# Altium footprint library PMIC - LED Drivers.PcbLib: 15 footprints
Each footprint in its own frame and in the unit in brackets; x right, y up, seen from the top. Pads: shape width x height; smd on the part's side, far side on the other; paste and mask are expansions set on the pad; w line width, h text height; cw(c..) or ccw(c..) is an arc to the next point about the centre after c.
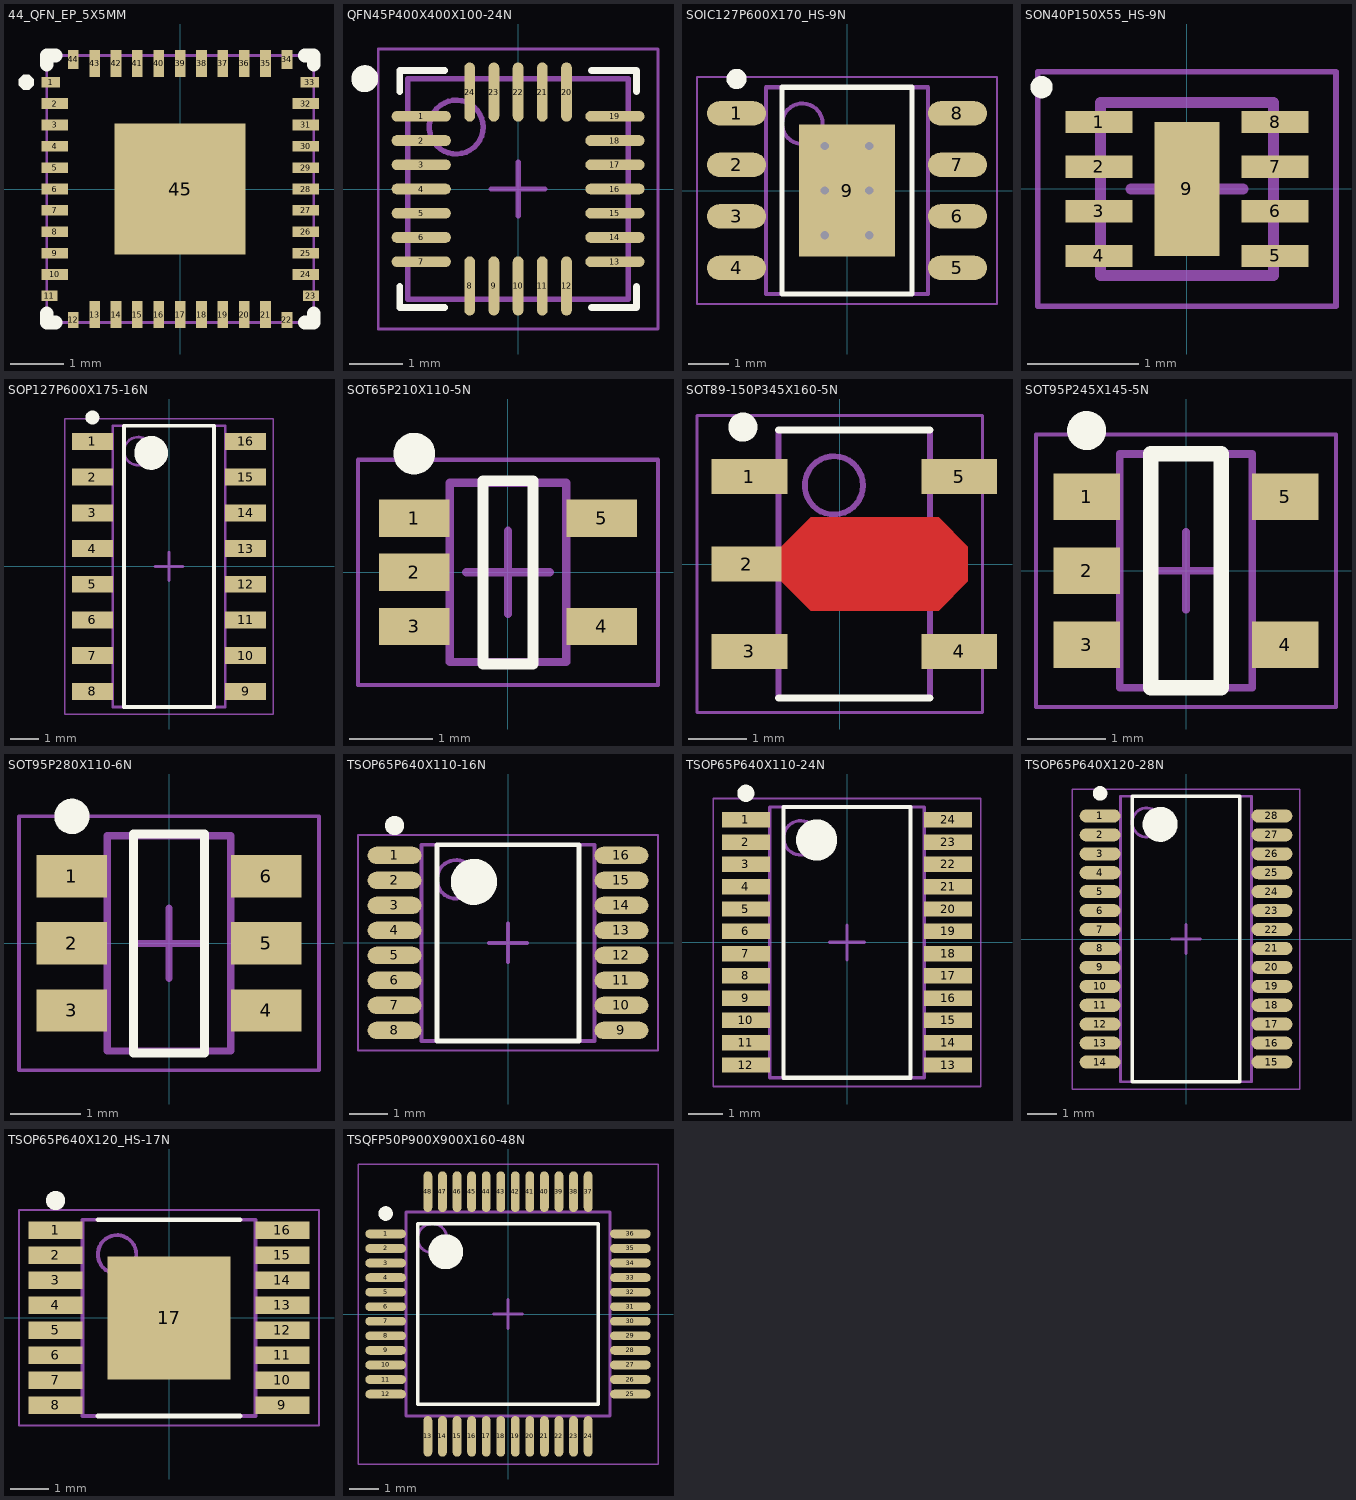
[diagram p0: the footprints below, top view; thin cyan lines are the x and y axes]

## 44_QFN_EP_5X5MM [mm] "20260318"
height 0.9
pads (45):
  rect 0.35x0.2 smd mask+0.05: 1(-2.425,2) 33(2.425,2)
  rect 0.5x0.2 smd mask+0.051: 2(-2.35,1.6) 3(-2.35,1.2) 4(-2.35,0.8) 5(-2.35,0.4) 6(-2.35,0) 7(-2.35,-0.4) 8(-2.35,-0.8) 9(-2.35,-1.2) 10(-2.35,-1.6) 24(2.35,-1.6) 25(2.35,-1.2) 26(2.35,-0.8) 27(2.35,-0.4) 28(2.35,0) 29(2.35,0.4) 30(2.35,0.8) 31(2.35,1.2) 32(2.35,1.6)
  rect 0.3x0.2 smd mask+0.05: 11(-2.45,-2) 23(2.45,-2)
  rect 0.2x0.3 smd mask+0.05: 12(-2,-2.45) 22(2,-2.45)
  rect 0.2x0.5 smd mask+0.051: 13(-1.6,-2.35) 14(-1.2,-2.35) 15(-0.8,-2.35) 16(-0.4,-2.35) 17(0,-2.35) 18(0.4,-2.35) 19(0.8,-2.35) 20(1.2,-2.35) 21(1.6,-2.35) 35(1.6,2.35) 36(1.2,2.35) 37(0.8,2.35) 38(0.4,2.35) 39(0,2.35) 40(-0.4,2.35) 41(-0.8,2.35) 42(-1.2,2.35) 43(-1.6,2.35)
  rect 0.2x0.35 smd mask+0.05: 34(2,2.425) 44(-2,2.425)
  rect 2.45x2.45 smd mask+0.051: 45(0,0)
Top Overlay:
  region: -3.017,2 -3.017,2.057 -2.937,2.137 -2.823,2.137 -2.743,2.057 -2.743,2 -2.743,1.943 -2.823,1.863 -2.937,1.863 -3.017,1.943
  lines w0.254: -2.5,-2.331 -2.5,-2.5 -2.331,-2.5 ; -2.5,2.331 -2.5,2.5 -2.331,2.5 ; 2.331,-2.5 2.5,-2.5 2.5,-2.331 ; 2.331,2.5 2.5,2.5 2.5,2.331
Mechanical 15:
  lines w0.051: -2.5,-2.5 2.5,-2.5 2.5,2.5 -2.5,2.5 -2.5,-2.5
3D body "QFN-44_L5.0-W5.0-P0.40-TL-EP2.5.step": height 0.77, standoff 0, extent -2.51,-2.51 2.51,2.51

## QFN45P400X400X100-24N [mm] "QFN, 24-Leads, Body 4,00x4,00mm, Pitch 0,45mm, IPC Medium Density"
height 1
pads (24):
  oval 1.1x0.2 smd: 1(-1.8,1.35) 2(-1.8,0.9) 3(-1.8,0.45) 4(-1.8,0) 5(-1.8,-0.45) 6(-1.8,-0.9) 7(-1.8,-1.35) 13(1.8,-1.35) 14(1.8,-0.9) 15(1.8,-0.45) 16(1.8,0) 17(1.8,0.45) 18(1.8,0.9) 19(1.8,1.35)
  oval 0.2x1.1 smd: 8(-0.9,-1.8) 9(-0.45,-1.8) 10(0,-1.8) 11(0.45,-1.8) 12(0.9,-1.8) 20(0.9,1.8) 21(0.45,1.8) 22(0,1.8) 23(-0.45,1.8) 24(-0.9,1.8)
Top Overlay:
  circle w0.25: c-2.85,2.05 r0.125
  lines w0.127: -2.2,-1.814 -2.2,-2.2 -1.363,-2.2 ; -2.2,1.813 -2.2,2.2 -1.363,2.2 ; 1.363,-2.2 2.2,-2.2 2.2,-1.814 ; 1.363,2.2 2.2,2.2 2.2,1.813
Mechanical 13:
  circle w0.1: c-1.15,1.15 r0.5
  lines w0.1: -2.05,-2.05 -2.05,2.05 2.05,2.05 2.05,-2.05 -2.05,-2.05
Mechanical 15:
  lines w0.05: -2.6,-2.6 -2.6,2.6 2.6,2.6 2.6,-2.6 -2.6,-2.6
  lines w0.1: -0.5,0 0.5,0 ; 0,-0.5 0,0.5
3D body "QFN45P400X400X100-24N.step": height 1, standoff 0, extent -2.051,-2.051 2.051,2.051

## SOIC127P600X170_HS-9N [mm] "SOIC, 8-Leads, Body 4,90x3,90mm, Pitch 1,27mm, Thermal Pad 3,25x2,36mm, IPC Medium Density"
height 1.7
pads (9):
  oval 1.45x0.6 smd: 1(-2.725,1.905) 2(-2.725,0.635) 3(-2.725,-0.635) 4(-2.725,-1.905) 5(2.725,-1.905) 6(2.725,-0.635) 7(2.725,0.635) 8(2.725,1.905)
  rect 2.36x3.25 smd: 9(0,0)
via -0.55,1.1 diameter 0.5 hole 0.2
via 0.55,1.1 diameter 0.5 hole 0.2
via -0.55,0 diameter 0.5 hole 0.2
via 0.55,0 diameter 0.5 hole 0.2
via -0.55,-1.1 diameter 0.5 hole 0.2
via 0.55,-1.1 diameter 0.5 hole 0.2
Top Overlay:
  circle w0.25: c-2.725,2.755 r0.125
  lines w0.127: -1.6,-2.55 -1.6,2.55 1.6,2.55 1.6,-2.55 -1.6,-2.55
Mechanical 13:
  circle w0.1: c-1.1,1.65 r0.5
  lines w0.1: -2,-2.55 -2,2.55 2,2.55 2,-2.55 -2,-2.55
Mechanical 15:
  lines w0.05: -3.7,-2.8 -3.7,2.8 3.7,2.8 3.7,-2.8 -3.7,-2.8
  lines w0.1: -0.5,0 0.5,0 ; 0,-0.5 0,0.5
3D body "SOIC127P600X170_HS-9N.step": height 1.7, standoff 0, extent -3,-2.55 3,2.55

## SON40P150X55_HS-9N [mm] "SON, 8-Leads, Body 1,50x1,50mm, Pitch 0,40mm, Thermal Pad 1,20x0,58mm, IPC Medium Density"
height 0.55
pads (9):
  rect 0.6x0.2 smd: 1(-0.79,0.6) 2(-0.79,0.2) 3(-0.79,-0.2) 4(-0.79,-0.6) 5(0.79,-0.6) 6(0.79,-0.2) 7(0.79,0.2) 8(0.79,0.6)
  rect 0.58x1.2 smd: 9(0,0)
Top Overlay:
  circle w0.1: c-1.302,0.912 r0.05
Mechanical 13:
  lines w0.1: -0.775,-0.775 -0.775,0.775 0.775,0.775 0.775,-0.775 -0.775,-0.775
Mechanical 15:
  lines w0.05: -1.335,-1.05 -1.335,1.05 1.335,1.05 1.335,-1.05 -1.335,-1.05
  lines w0.1: -0.5,0 0.5,0 ; 0,-0.5 0,0.5
3D body "SON40P150X55_HS-9N.step": height 0.55, standoff 0, extent -0.776,-0.775 0.776,0.775

## SOP127P600X175-16N [mm] "SOP, 16-Leads, Body 9,90x3,90mm, Pitch 1,27mm, IPC Medium Density"
height 1.75
pads (16):
  rect 1.45x0.6 smd: 1(-2.725,4.445) 2(-2.725,3.175) 3(-2.725,1.905) 4(-2.725,0.635) 5(-2.725,-0.635) 6(-2.725,-1.905) 7(-2.725,-3.175) 8(-2.725,-4.445) 9(2.725,-4.445) 10(2.725,-3.175) 11(2.725,-1.905) 12(2.725,-0.635) 13(2.725,0.635) 14(2.725,1.905) 15(2.725,3.175) 16(2.725,4.445)
Top Overlay:
  circle w0.25: c-2.725,5.295 r0.125
  circle w0.6: c-0.637,4.036 r0.3
  lines w0.127: -1.6,-5 -1.6,5 1.6,5 1.6,-5 -1.6,-5
Mechanical 13:
  circle w0.1: c-1.1,4.1 r0.5
  lines w0.1: -2,-5 -2,5 2,5 2,-5 -2,-5
Mechanical 15:
  lines w0.05: -3.7,-5.25 -3.7,5.25 3.7,5.25 3.7,-5.25 -3.7,-5.25
  lines w0.1: -0.5,0 0.5,0 ; 0,-0.5 0,0.5
3D body "SOP127P600X175-16N.step": height 1.75, standoff 0, extent -3,-5 3,5

## SOT65P210X110-5N [mm] "SOT23, 5-Leads, Body 2,00x2,10mm, Pitch 0,65mm, IPC Medium Density"
height 1.1
pads (5):
  rect 0.85x0.45 smd: 1(-1.125,0.65) 2(-1.125,0) 3(-1.125,-0.65) 4(1.125,-0.65) 5(1.125,0.65)
Top Overlay:
  circle w0.25: c-1.125,1.425 r0.125
  lines w0.127: -0.3,-1.1 0.3,-1.1 0.3,1.1 -0.3,1.1 -0.3,-1.1
Mechanical 13:
  lines w0.1: -0.7,-1.075 -0.7,1.075 0.7,1.075 0.7,-1.075 -0.7,-1.075
Mechanical 15:
  lines w0.05: -1.8,-1.35 -1.8,1.35 1.8,1.35 1.8,-1.35 -1.8,-1.35
  lines w0.1: -0.5,0 0.5,0 ; 0,-0.5 0,0.5
3D body "SOT65P210X110-5N.step": height 1.1, standoff 0, extent -1.2,-1.075 1.2,1.075

## SOT89-150P345X160-5N [mm] "SOT89, 5-Leads, Body 4,50x2,45mm, Pitch 1,50mm, Lead Span 3,5mm, IPC Medium Density"
height 1.6
pads (5):
  rect 1.3x0.6 smd: 1(-1.55,1.5) 3(-1.55,-1.5) 4(2.05,-1.5) 5(2.05,1.5)
  rect 1.2x0.6 smd: 2(-1.6,0)
Top Layer:
  region: -1.05,0.25 -0.5,0.8 1.7,0.8 2.2,0.3 2.2,-0.3 1.7,-0.8 -0.5,-0.8 -1.05,-0.25
Top Overlay:
  circle w0.25: c-1.663,2.35 r0.125
  lines w0.127: -1.05,-2.3 1.55,-2.3 ; -1.05,2.3 1.55,2.3
Mechanical 13:
  circle w0.1: c-0.1,1.35 r0.5
  lines w0.1: -1.05,-2.3 -1.05,2.3 1.55,2.3 1.55,-2.3 -1.05,-2.3
Mechanical 15:
  lines w0.05: -2.45,-2.55 -2.45,2.55 2.45,2.55 2.45,-2.55 -2.45,-2.55
  lines w0.1: -0.25,0 0.75,0 ; 0.25,-0.5 0.25,0.5
3D body "SOT89-150P345X160-3N.step": height 1.6, standoff 0, extent -2.1,-2.297 1.8,2.297

## SOT95P245X145-5N [mm] "SOT23, 5-Leads, Body 2,90x2,45mm, Pitch 0,95mm, IPC Medium Density"
height 1.45
pads (5):
  rect 0.85x0.6 smd: 1(-1.275,0.95) 2(-1.275,0) 3(-1.275,-0.95) 4(1.275,-0.95) 5(1.275,0.95)
Top Overlay:
  circle w0.25: c-1.275,1.8 r0.125
  lines w0.2: -0.45,-1.5 -0.45,1.5 0.45,1.5 0.45,-1.5 -0.45,-1.5
Mechanical 13:
  lines w0.1: -0.85,-1.5 0.85,-1.5 0.85,1.5 -0.85,1.5 -0.85,-1.5
Mechanical 15:
  lines w0.05: -1.925,-1.75 1.925,-1.75 1.925,1.75 -1.925,1.75 -1.925,-1.75
  lines w0.1: -0.5,0 0.5,0 ; 0,-0.5 0,0.5
3D body "SOT95P245X145-5N.step": height 1.45, standoff 0, extent -1.2,-1.5 1.2,1.5

## SOT95P280X110-6N [mm] "SOT23, 6-Leads, Body 2,90x2,80mm, Pitch 0,95mm, IPC Medium Density"
height 1.1
pads (6):
  rect 1x0.6 smd: 1(-1.375,0.95) 2(-1.375,0) 3(-1.375,-0.95) 4(1.375,-0.95) 5(1.375,0) 6(1.375,0.95)
Top Overlay:
  circle w0.25: c-1.375,1.8 r0.125
  lines w0.127: -0.5,-1.55 0.5,-1.55 0.5,1.55 -0.5,1.55 -0.5,-1.55
Mechanical 13:
  lines w0.1: -0.875,-1.525 -0.875,1.525 0.875,1.525 0.875,-1.525 -0.875,-1.525
Mechanical 15:
  lines w0.05: -2.125,-1.8 -2.125,1.8 2.125,1.8 2.125,-1.8 -2.125,-1.8
  lines w0.1: -0.5,0 0.5,0 ; 0,-0.5 0,0.5
3D body "SOT95P280X110-6N.step": height 1.1, standoff 0, extent -1.525,-1.525 1.525,1.525

## SOT-23-5 [mm]

## TSOP65P640X110-16N [mm] "TSOP, 16-Leads, Body 5,00x4,40mm, Pitch 0,65mm, IPC Medium Density"
height 1.1
pads (16):
  oval 1.4x0.45 smd: 1(-2.95,2.275) 2(-2.95,1.625) 3(-2.95,0.975) 4(-2.95,0.325) 5(-2.95,-0.325) 6(-2.95,-0.975) 7(-2.95,-1.625) 8(-2.95,-2.275) 9(2.95,-2.275) 10(2.95,-1.625) 11(2.95,-0.975) 12(2.95,-0.325) 13(2.95,0.325) 14(2.95,0.975) 15(2.95,1.625) 16(2.95,2.275)
Top Overlay:
  circle w0.25: c-2.95,3.05 r0.125
  circle w0.6: c-0.886,1.586 r0.3
  lines w0.127: -1.85,-2.55 -1.85,2.55 1.85,2.55 1.85,-2.55 -1.85,-2.55
Mechanical 13:
  circle w0.1: c-1.35,1.65 r0.5
  lines w0.1: -2.25,-2.55 -2.25,2.55 2.25,2.55 2.25,-2.55 -2.25,-2.55
Mechanical 15:
  lines w0.05: -3.9,-2.8 -3.9,2.8 3.9,2.8 3.9,-2.8 -3.9,-2.8
  lines w0.1: -0.5,0 0.5,0 ; 0,-0.5 0,0.5
3D body "TSOP65P640X110-16N.step": height 1.1, standoff 0, extent -3.2,-2.55 3.2,2.55

## TSOP65P640X110-24N [mm] "TSOP, 24-Leads, Body 7,80x4,40mm, Pitch 0,65mm, IPC Medium Density"
height 1.1
pads (24):
  rect 1.4x0.45 smd: 1(-2.95,3.575) 2(-2.95,2.925) 3(-2.95,2.275) 4(-2.95,1.625) 5(-2.95,0.975) 6(-2.95,0.325) 7(-2.95,-0.325) 8(-2.95,-0.975) 9(-2.95,-1.625) 10(-2.95,-2.275) 11(-2.95,-2.925) 12(-2.95,-3.575) 13(2.95,-3.575) 14(2.95,-2.925) 15(2.95,-2.275) 16(2.95,-1.625) 17(2.95,-0.975) 18(2.95,-0.325) 19(2.95,0.325) 20(2.95,0.975) 21(2.95,1.625) 22(2.95,2.275) 23(2.95,2.925) 24(2.95,3.575)
Top Overlay:
  circle w0.6: c-0.886,2.986 r0.3
  circle w0.25: c-2.95,4.35 r0.125
  lines w0.127: -1.85,-3.95 1.85,-3.95 1.85,3.95 -1.85,3.95 -1.85,-3.95
Mechanical 13:
  circle w0.1: c-1.35,3.05 r0.5
  lines w0.1: -2.25,-3.95 2.25,-3.95 2.25,3.95 -2.25,3.95 -2.25,-3.95
Mechanical 15:
  lines w0.05: -3.9,-4.2 3.9,-4.2 3.9,4.2 -3.9,4.2 -3.9,-4.2
  lines w0.1: -0.5,0 0.5,0 ; 0,-0.5 0,0.5
3D body "TSOP65P640X110-24N.step": height 1.1, standoff 0, extent -3.2,-3.95 3.2,3.95

## TSOP65P640X120-28N [mm] "TSOP, 28-Leads, Body 9,70x4,40mm, Pitch 0,65mm, IPC Medium Density"
height 1.2
pads (28):
  oval 1.4x0.45 smd: 1(-2.95,4.225) 2(-2.95,3.575) 3(-2.95,2.925) 4(-2.95,2.275) 5(-2.95,1.625) 6(-2.95,0.975) 7(-2.95,0.325) 8(-2.95,-0.325) 9(-2.95,-0.975) 10(-2.95,-1.625) 11(-2.95,-2.275) 12(-2.95,-2.925) 13(-2.95,-3.575) 14(-2.95,-4.225) 15(2.95,-4.225) 16(2.95,-3.575) 17(2.95,-2.925) 18(2.95,-2.275) 19(2.95,-1.625) 20(2.95,-0.975) 21(2.95,-0.325) 22(2.95,0.325) 23(2.95,0.975) 24(2.95,1.625) 25(2.95,2.275) 26(2.95,2.925) 27(2.95,3.575) 28(2.95,4.225)
Top Overlay:
  circle w0.25: c-2.95,5 r0.125
  circle w0.6: c-0.886,3.936 r0.3
  lines w0.127: -1.85,-4.9 -1.85,4.9 1.85,4.9 1.85,-4.9 -1.85,-4.9
Mechanical 13:
  circle w0.1: c-1.35,4 r0.5
  lines w0.1: -2.25,-4.9 -2.25,4.9 2.25,4.9 2.25,-4.9 -2.25,-4.9
Mechanical 15:
  lines w0.05: -3.9,-5.15 -3.9,5.15 3.9,5.15 3.9,-5.15 -3.9,-5.15
  lines w0.1: -0.5,0 0.5,0 ; 0,-0.5 0,0.5
3D body "TSOP65P640X120-28N.step": height 1.2, standoff 0, extent -3.2,-4.9 3.2,4.9

## TSOP65P640X120_HS-17N [mm] "TSOP, 16-Leads, Body 5,00x4,40mm, Pitch 0,65mm, Thermal Pad 3,20x3,20mm, IPC Medium Density"
height 1.2
pads (17):
  rect 1.4x0.45 smd: 1(-2.95,2.275) 2(-2.95,1.625) 3(-2.95,0.975) 4(-2.95,0.325) 5(-2.95,-0.325) 6(-2.95,-0.975) 7(-2.95,-1.625) 8(-2.95,-2.275) 9(2.95,-2.275) 10(2.95,-1.625) 11(2.95,-0.975) 12(2.95,-0.325) 13(2.95,0.325) 14(2.95,0.975) 15(2.95,1.625) 16(2.95,2.275)
  rect 3.2x3.2 smd: 17(0,0)
Top Overlay:
  circle w0.25: c-2.95,3.05 r0.125
  lines w0.127: -1.85,-2.55 1.85,-2.55 ; -1.85,2.55 1.85,2.55
Mechanical 13:
  circle w0.1: c-1.35,1.65 r0.5
  lines w0.1: -2.25,-2.55 2.25,-2.55 2.25,2.55 -2.25,2.55 -2.25,-2.55
Mechanical 15:
  lines w0.05: -3.9,-2.8 3.9,-2.8 3.9,2.8 -3.9,2.8 -3.9,-2.8
  lines w0.1: -0.5,0 0.5,0 ; 0,-0.5 0,0.5
3D body "TSOP65P640X120_HS-17N.step": height 1.2, standoff 0, extent -3.2,-2.55 3.2,2.55

## TSQFP50P900X900X160-48N [mm] "TSQFP, 48-Leads, Body 7,00x7,00mm, Pitch 0,50mm, IPC Medium Density"
height 1.6
pads (48):
  oval 1.4x0.3 smd: 1(-4.2,2.75) 2(-4.2,2.25) 3(-4.2,1.75) 4(-4.2,1.25) 5(-4.2,0.75) 6(-4.2,0.25) 7(-4.2,-0.25) 8(-4.2,-0.75) 9(-4.2,-1.25) 10(-4.2,-1.75) 11(-4.2,-2.25) 12(-4.2,-2.75) 25(4.2,-2.75) 26(4.2,-2.25) 27(4.2,-1.75) 28(4.2,-1.25) 29(4.2,-0.75) 30(4.2,-0.25) 31(4.2,0.25) 32(4.2,0.75) 33(4.2,1.25) 34(4.2,1.75) 35(4.2,2.25) 36(4.2,2.75)
  oval 0.3x1.4 smd: 13(-2.75,-4.2) 14(-2.25,-4.2) 15(-1.75,-4.2) 16(-1.25,-4.2) 17(-0.75,-4.2) 18(-0.25,-4.2) 19(0.25,-4.2) 20(0.75,-4.2) 21(1.25,-4.2) 22(1.75,-4.2) 23(2.25,-4.2) 24(2.75,-4.2) 37(2.75,4.2) 38(2.25,4.2) 39(1.75,4.2) 40(1.25,4.2) 41(0.75,4.2) 42(0.25,4.2) 43(-0.25,4.2) 44(-0.75,4.2) 45(-1.25,4.2) 46(-1.75,4.2) 47(-2.25,4.2) 48(-2.75,4.2)
Top Overlay:
  circle w0.6: c-2.136,2.136 r0.3
  circle w0.25: c-4.2,3.45 r0.125
  lines w0.127: -3.1,-3.1 3.1,-3.1 3.1,3.1 -3.1,3.1 -3.1,-3.1
Mechanical 13:
  circle w0.1: c-2.6,2.6 r0.5
  lines w0.1: -3.5,-3.5 3.5,-3.5 3.5,3.5 -3.5,3.5 -3.5,-3.5
Mechanical 15:
  lines w0.05: -5.15,-5.15 5.15,-5.15 5.15,5.15 -5.15,5.15 -5.15,-5.15
  lines w0.1: -0.5,0 0.5,0 ; 0,-0.5 0,0.5
3D body "TSQFP50P900X900X160-48N.step": height 1.6, standoff 0, extent -4.5,-4.5 4.5,4.5